# Altium footprint library boxheader.PcbLib: 1 footprints
Each footprint in its own frame and in the unit in brackets; x right, y up, seen from the top. Pads: shape width x height; smd on the part's side, far side on the other; paste and mask are expansions set on the pad; w line width, h text height; cw(c..) or ccw(c..) is an arc to the next point about the centre after c.
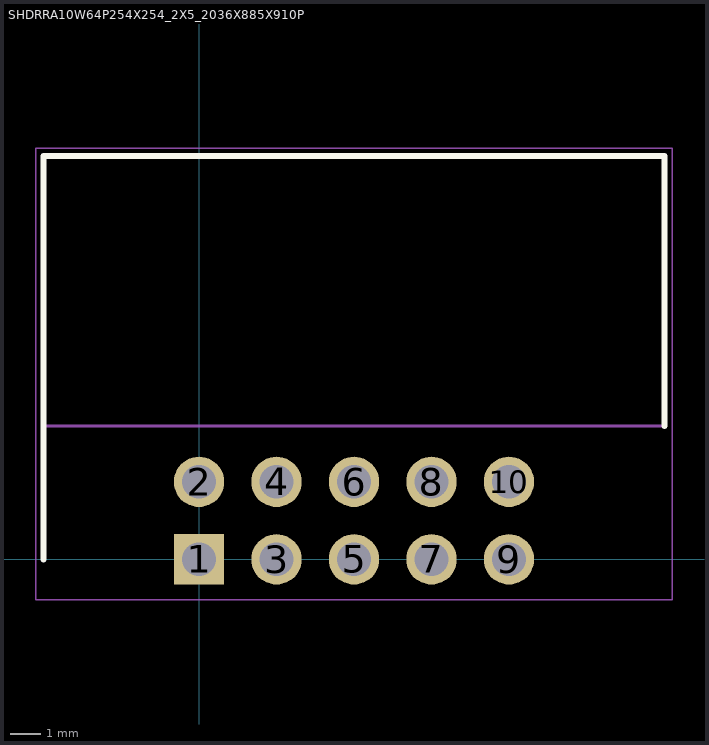
[diagram p0: the footprint, top view; thin cyan lines are the x and y axes]

## SHDRRA10W64P254X254_2X5_2036X885X910P [mm]
pads (10):
  rect 1.65x1.65 hole 1.1: 1(0,0)
  round 1.65 hole 1.1: 2(0,2.54) 3(2.54,0) 4(2.54,2.54) 5(5.08,0) 6(5.08,2.54) 7(7.62,0) 8(7.62,2.54) 9(10.16,0) 10(10.16,2.54)
Top Overlay:
  lines w0.2: -5.1,0 -5.1,13.23 15.26,13.23 15.26,4.38
Mechanical 13:
  lines w0.1: -5.1,4.38 -5.1,13.23 15.26,13.23 15.26,4.38 -5.1,4.38
Mechanical 15:
  lines w0.05: -5.35,-1.325 15.51,-1.325 15.51,13.48 -5.35,13.48 -5.35,-1.325